# EAGLE library part ESP32-DEVBOARD (library sb2030_logger)
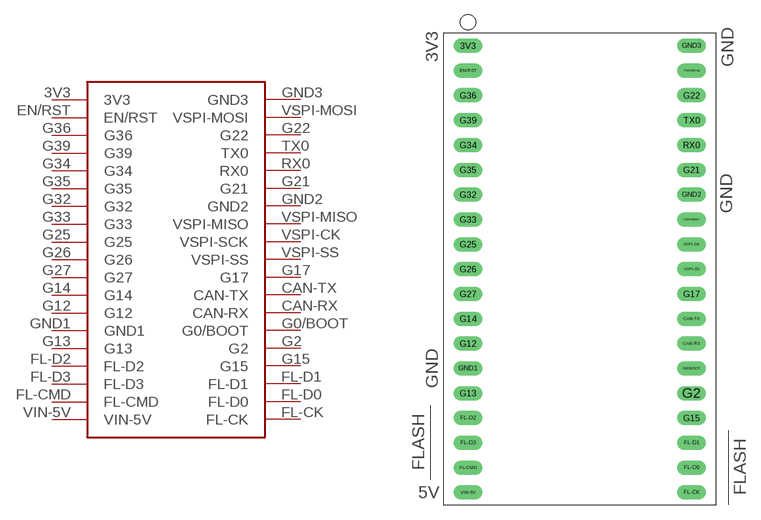
[diagram p6: symbol with the pads of ESP32-DEVBOARD; footprint ESP32-DEVBOARD]

Designator prefix -

## ESP32-DEVBOARD  [ESP32-DEVBOARD]
3V3  3V3
CAN-RX  CAN-RX
CAN-TX  CAN-TX
EN/RST  EN/RST
FL-CK  FL-CK
FL-CMD  FL-CMD
FL-D0  FL-D0
FL-D1  FL-D1
FL-D2  FL-D2
FL-D3  FL-D3
G0/BOOT  G0/BOOT
G2  G2
G12  G12
G13  G13
G14  G14
G15  G15
G17  G17
G21  G21
G22  G22
G25  G25
G26  G26
G27  G27
G32  G32
G33  G33
G34  G34
G35  G35
G36  G36
G39  G39
GND1  GND1
GND2  GND2
GND3  GND3
RX0  RX0
TX0  TX0
VIN-5V  VIN-5V
VSPI-CK  VSPI-SCK
VSPI-MISO  VSPI-MISO
VSPI-MOSI  VSPI-MOSI
VSPI-SS  VSPI-SS

## Footprint ESP32-DEVBOARD (pad centres in mm)
drill 1 long: 3V3 -11.43,20.32; CAN-RX 11.43,-10.16; CAN-TX 11.43,-7.62; EN/RST -11.43,17.78; FL-CK 11.43,-25.4; FL-CMD -11.43,-22.86; FL-D0 11.43,-22.86; FL-D1 11.43,-20.32; FL-D2 -11.43,-17.78; FL-D3 -11.43,-20.32; G0/BOOT 11.43,-12.7; G2 11.43,-15.24; G12 -11.43,-10.16; G13 -11.43,-15.24; G14 -11.43,-7.62; G15 11.43,-17.78; G17 11.43,-5.08; G21 11.43,7.62; G22 11.43,15.24; G25 -11.43,0; G26 -11.43,-2.54; G27 -11.43,-5.08; G32 -11.43,5.08; G33 -11.43,2.54; G34 -11.43,10.16; G35 -11.43,7.62; G36 -11.43,15.24; G39 -11.43,12.7; GND1 -11.43,-12.7; GND2 11.43,5.08; GND3 11.43,20.32; RX0 11.43,10.16; TX0 11.43,12.7; VIN-5V -11.43,-25.4; VSPI-CK 11.43,0; VSPI-MISO 11.43,2.54; VSPI-MOSI 11.43,17.78; VSPI-SS 11.43,-2.54